# Altium schematic symbol library RC0402JR-07510RL.SchLib: 1 symbol
Pins are listed as number, name and electrical type; pins without a type are passive.

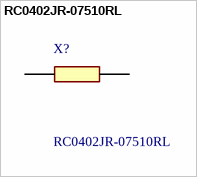
[diagram p0: symbol RC0402JR-07510RL]

## RC0402JR-07510RL
designator X?
RESISTOR, 0402 510 Ohms +/-5% 1/16 W; Manufacturer_Name: Yageo Group; Geometry.Height: 0.4mm; Mouser Part Number: 603-RC0402JR-07510RL; Mouser Price/Stock: https://www.mouser.com/Search/Refine.aspx?Keyword=603-RC0402JR-07510RL; Manufacturer_Part_Number: RC0402JR-07510RL; Datasheet Link: https://componentsearchengine.com/Datasheets/1/RC0402JR-07510RL.pdf
footprint RESC1005X40N
pins: 1, 2